# EAGLE library part 750030421 (library Wurth Electronics Midcom Inc V1-0)
Package Style: Non-Standard EFD20 5.75W THT Mounting: THT Pins: 10 pins Bobbin: 070-4071 Windings Primary: 4.75 - 16VDC, 40k - 100kHz Secondary: 5.0VDC, 400mADC Secondary: 24.0VDC, 78mADC Secondary: 24.0VDC, 78mADC Best pinouts for production vary per application. Please contact Wurth Electronics Midcom, Inc. for assistance with your custom design. Datasheet: 750030421 <http://www.we-online.com/web/en/index.php/show/media/passive_components_-_custom_magnetics/pdf_doc_files/spec_sheets/32000/30421-LF3.pdf> Website: Wurth Electronics Midcom <http://www.we-online.com/midcom> Contact us Wurth Electronics Midcom, Inc. 121 Airport Dr. Watertown, SD 57201 Phone: (605) 886-4385 Fax: (605) 886-4486 E-Mail: midcom@we-online.com
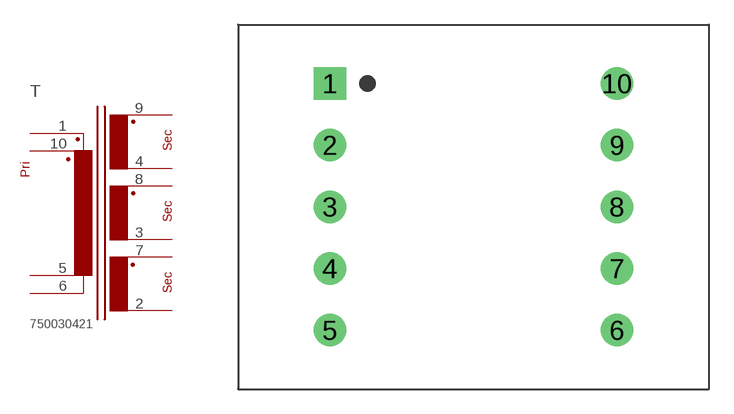
[diagram p14: symbol with the pads of 99NONSTANDARD_EFD20_THT_10PIN; footprint 99NONSTANDARD_EFD20_THT_10PIN]

Designator prefix T

## 750030421  [99NONSTANDARD_EFD20_THT_10PIN]
1  1  pas
2  10  pas
3  8  pas
4  6  pas
5  4  pas
6  2  pas
7  9  pas
8  7  pas
9  5  pas
10  3  pas

## Footprint 99NONSTANDARD_EFD20_THT_10PIN (pad centres in mm)
Package Style: Non-Standard EFD20 Mounting: THT Pins: 10
drill 1.321 square: 1 -8.75,7.518
drill 1.321 round: 2 -8.75,3.759; 3 -8.75,0; 4 -8.75,-3.759; 5 -8.75,-7.518; 6 8.75,-7.518; 7 8.75,-3.759; 8 8.75,0; 9 8.75,3.759; 10 8.75,7.518